# Altium footprint library PcbLib_HAS_2.0.PcbLib: 31 footprints (part 2 of 2)
Each footprint in its own frame and in the unit in brackets; x right, y up, seen from the top. Pads: shape width x height; smd on the part's side, far side on the other; paste and mask are expansions set on the pad; w line width, h text height; cw(c..) or ccw(c..) is an arc to the next point about the centre after c.
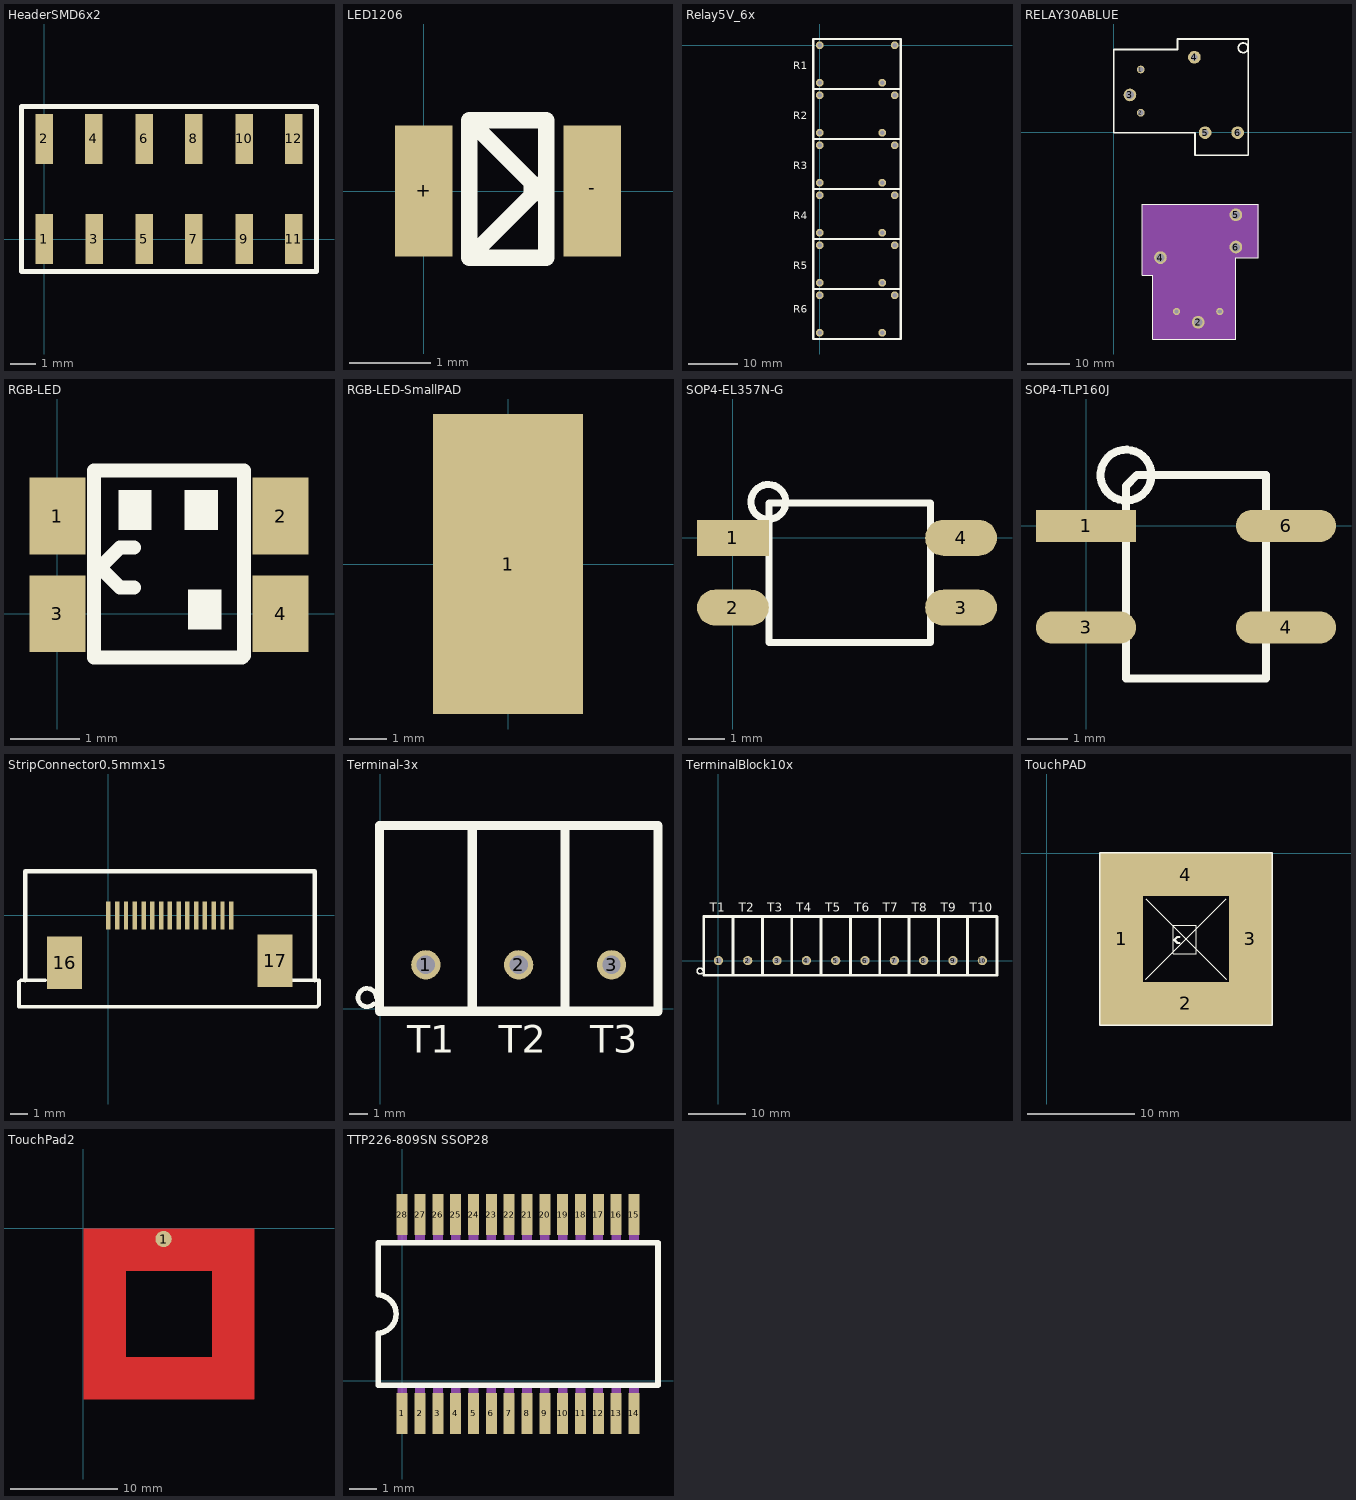
[diagram p1: the footprints below, top view; thin cyan lines are the x and y axes]

## HeaderSMD6x2 [mm]
pads (12):
  rect 0.7x2 smd: 1(0,0) 2(0,4) 3(2,0) 4(2,4) 5(4,0) 6(4,4) 7(6,0) 8(6,4) 9(8,0) 10(8,4) 11(10,0) 12(10,4)
Top Overlay:
  lines w0.2: -0.9,-1.3 10.9,-1.3 10.9,5.3 -0.9,5.3 -0.9,-1.3

## LED1206 [mm]
pads (2):
  rect 0.7x1.6 smd: +(0,0) -(2.06,0)
Top Overlay:
  lines w0.2: 0.559,-0.813 0.559,0.864 ; 0.559,-0.813 1.499,-0.813 1.499,0.864 0.559,0.864 ; 0.559,-0.813 1.321,-0.051 1.321,0.102 0.559,0.864

## Relay5V_6x [mm]
pads (24):
  round 1.6 hole 1 paste+0: 1A(0,0) 1B(0,-10.16) 1C(0,-20.32) 1D(0,-30.48) 1E(0,-40.64) 1F(0,-50.8) 2A(0,-7.62) 2B(0,-17.78) 2C(0,-27.94) 2D(0,-38.1) 2E(0,-48.26) 2F(0,-58.42) 3A(15.24,0) 3B(15.24,-10.16) 3C(15.24,-20.32) 3D(15.24,-30.48) 3E(15.24,-40.64) 3F(15.24,-50.8) 4A(12.7,-7.62) 4B(12.7,-17.78) 4C(12.7,-27.94) 4D(12.7,-38.1) 4E(12.7,-48.26) 4F(12.7,-58.42)
Top Overlay:
  lines w0.5: -1.27,-49.53 16.51,-49.53 ; -1.27,-49.53 -1.27,-59.69 16.51,-59.69 16.51,-49.53 ; -1.27,-49.53 16.51,-49.53 ; -1.27,-49.53 -1.27,-39.37 ; -1.27,-39.37 16.51,-39.37 ; -1.27,-39.37 16.51,-39.37 ; -1.27,-39.37 -1.27,-29.21 ; -1.27,-29.21 16.51,-29.21 ; -1.27,-29.21 16.51,-29.21 ; -1.27,-29.21 -1.27,-19.05 ; -1.27,-19.05 16.51,-19.05 ; -1.27,-19.05 16.51,-19.05 ; -1.27,-19.05 -1.27,-8.89 ; -1.27,-8.89 16.51,-8.89 ; -1.27,-8.89 -1.27,1.27 16.51,1.27 16.51,-8.89 ; -1.27,-8.89 16.51,-8.89 ; 16.51,-49.53 16.51,-39.37 ; 16.51,-39.37 16.51,-29.21 ; 16.51,-29.21 16.51,-19.05 ; 16.51,-19.05 16.51,-8.89
  text "R6" at -5.42,-54.36 h1.52
  text "R5" at -5.42,-45.47 h1.52
  text "R4" at -5.42,-35.31 h1.52
  text "R3" at -5.42,-25.15 h1.52
  text "R2" at -5.42,-14.99 h1.52
  text "R1" at -5.42,-4.83 h1.52

## RELAY30ABLUE [mm] "Relay30ABlue"
pads (12):
  round 1.8 hole 1.2: 1(6.331,14.782) 2(6.331,4.582)
  round 1.7 hole 1: 1(24.986,-42.313) 3(14.786,-42.313)
  round 3 hole 2: 2(19.886,-44.853) 3(3.781,8.782) 4(10.986,-29.613) 5(28.786,-19.513) 6(28.786,-27.113)
  round 3 hole 1.5: 4(18.991,17.682) 5(21.531,-0.118) 6(29.2,-0.118)
Top Overlay:
  circle w0.4: c30.516,19.902 r1.15
  lines w0.127: 6.686,-33.713 6.686,-17.013 34.086,-17.013 34.086,-29.613 28.786,-29.613 28.786,-48.813 9.186,-48.813 9.186,-33.713 6.686,-33.713
  lines w0.4: -0.069,-0.118 -0.069,19.482 15.031,19.482 15.031,21.982 31.731,21.982 31.731,9.754 31.731,-5.418 19.131,-5.418 19.131,-0.118 -0.069,-0.118
Mechanical 27:
  region: 28.768,-48.813 28.768,-29.636 34.102,-29.636 34.102,-17.063 6.67,-17.063 6.67,-33.7 9.21,-33.7 9.21,-48.813

## RGB-LED [mm]
pads (4):
  rect 0.8x1.1 smd: 1(0,1.4) 2(3.2,1.4) 3(0,0) 4(3.2,0)
Top Overlay:
  rectangle: 1.875,-0.225 2.35,0.35
  rectangle: 1.825,1.2 2.3,1.775
  rectangle: 0.875,1.2 1.35,1.775
  lines w0.2: 1.1,0.375 0.9,0.375 0.625,0.65 0.625,0.675 0.9,0.95 1.1,0.95 ; 0.525,-0.625 2.65,-0.625 2.675,-0.6 2.675,2.05 0.525,2.05 0.525,-0.625

## RGB-LED-SmallPAD [mm]
pads (1):
  rect 4x8 smd: 1(0,0)

## SOP4-EL357N-G [mm]
pads (4):
  rect 2x1 smd: 1(0,0)
  oval 2x1 smd: 2(0,-1.94) 3(6.35,-1.94) 4(6.35,0)
Top Overlay:
  circle w0.2: c0.985,1 r0.485
  lines w0.2: 1,-2.91 1,0.97 2.69,0.97 5.5,0.97 5.5,-2.91 1,-2.91

## SOP4-TLP160J [mm]
pads (4):
  rect 2.5x0.8 smd: 1(0,0)
  oval 2.5x0.8 smd: 3(0,-2.54) 4(5,-2.54) 6(5,0)
Top Overlay:
  circle w0.2: c1,1.27 r0.635
  lines w0.2: 1,-3.81 1,1 1.27,1.27 1.865,1.27 4.5,1.27 4.5,-3.81 1,-3.81

## StripConnector0.5mmx15 [mm]
pads (17):
  rect 0.254x1.6 smd: 1(0,0) 2(0.5,0) 3(1,0) 4(1.5,0) 5(2,0) 6(2.5,0) 7(3,0) 8(3.5,0) 9(4,0) 10(4.5,0) 11(5,0) 12(5.5,0) 13(6,0) 14(6.5,0) 15(7,0)
  rect 2x3 smd: 16(-2.5,-2.7) 17(9.5,-2.6)
Top Overlay:
  lines w0.2: -3.6,-3.7 -5,-3.7 -5.1,-3.8 -5.1,-5.2 11.9,-5.2 12,-5.1 12,-3.7 10.5,-3.7
  lines w0.254: -4.75,-3.7 -4.75,2.5 11.75,2.5 11.75,-3.7

## Terminal-3x [mm] "Power Terminal 3 pins"
height 10
pads (3):
  round 1.6 hole 1: 1(2.5,2.4) 2(7.58,2.4) 3(12.66,2.4)
Top Overlay:
  lines w0.254: -0.354,0.254 cw(c-0.707,0.607) -0.207,0.607
  lines w0.5: 5.04,-0.14 5.04,10.02 ; 10.12,-0.14 10.12,10.02 ; 15.1,-0.14 -0.04,-0.14 -0.04,10.02 15.18,10.02 15.2,10 15.2,-0.14
  text "T1" at 1.5,-2.4 h1.52
  text "T2" at 6.5,-2.4 h1.52
  text "T3" at 11.5,-2.4 h1.52

## TerminalBlock10x [mm]
pads (10):
  round 1.6 hole 1: 1(0,0) 2(5.08,0) 3(10.16,0) 4(15.24,0) 5(20.32,0) 6(25.4,0) 7(30.48,0) 8(35.56,0) 9(40.64,0) 10(45.72,0)
Top Overlay:
  lines w0.254: -2.854,-2.146 cw(c-3.207,-1.793) -2.707,-1.793
  lines w0.5: 2.54,-2.54 2.54,7.62 ; 7.62,-2.54 7.62,7.62 ; 12.7,-2.54 12.7,7.62 ; 17.78,-2.54 17.78,7.62 ; 22.86,-2.54 22.86,7.62 ; 27.94,-2.54 27.94,7.62 ; 33.02,-2.54 33.02,7.62 ; 38.1,-2.54 38.1,7.62 ; 43.18,-2.54 43.18,7.62 ; -2.54,-2.54 48.26,-2.54 48.26,7.62 -2.54,7.62 -2.54,-2.54
  text "T10" at 43.5,8.5 h1.52
  text "T9" at 38.5,8.5 h1.52
  text "T8" at 33.5,8.5 h1.52
  text "T7" at 28.5,8.5 h1.52
  text "T6" at 23.5,8.5 h1.52
  text "T5" at 18.5,8.5 h1.52
  text "T4" at 13.5,8.5 h1.52
  text "T3" at 8.5,8.5 h1.52
  text "T2" at 3.5,8.5 h1.52
  text "T1" at -1.5,8.5 h1.52

## TLP160J [mm]

## TouchPAD [mm]
pads (4):
  rect 4x16 smd: 1(7,-8) 3(19,-8)
  rect 16x4 smd: 2(13,-14) 4(13,-2)
Top Overlay:
  lines w0.102: 9.25,-11.75 16.75,-4.25 ; 9.25,-4.25 16.75,-11.75 ; 13.95,-9.375 11.825,-9.375 11.825,-6.7 13.975,-6.7 13.975,-9.35
  lines w0.2: 12.4,-8.375 12.2,-8.375 11.925,-8.1 11.925,-8.075 12.2,-7.8 12.4,-7.8
  lines w0.254: 5,-16 21,-16 21,0 5,0 5,-16

## TouchPad2 [mm]
pads (1):
  round 1.524 smd: 1(7.5,-1)
Top Layer:
  region: 0,0 0,-16 4,-16 4,0
  region: 16,-12 0,-12 0,-16 16,-16
  region: 16,-16 16,0 12,0 12,-16
  rectangle: 0,-4 16,0

## TTP226-809SN SSOP28 [mm]
pads (28):
  rect 0.4x1.5 smd: 1(-0.003,-1.184) 2(0.647,-1.184) 3(1.297,-1.184) 4(1.947,-1.184) 5(2.597,-1.184) 6(3.247,-1.184) 7(3.897,-1.184) 8(4.547,-1.184) 9(5.197,-1.184) 10(5.847,-1.184) 11(6.497,-1.184) 12(7.147,-1.184) 13(7.797,-1.184) 14(8.447,-1.184) 15(8.447,6.066) 16(7.797,6.066) 17(7.147,6.066) 18(6.497,6.066) 19(5.847,6.066) 20(5.197,6.066) 21(4.547,6.066) 22(3.897,6.066) 23(3.247,6.066) 24(2.597,6.066) 25(1.947,6.066) 26(1.297,6.066) 27(0.647,6.066) 28(-0.003,6.066)
Top Overlay:
  lines w0.203: -0.878,-0.159 9.322,-0.159 9.322,5.041 -0.878,5.041 -0.878,3.136 cw(c-0.919,2.441) -0.878,1.746 -0.878,-0.159
Mechanical 16:
  rectangle: -0.181,-1.496 0.175,-0.201
  rectangle: 0.469,-1.496 0.825,-0.201
  rectangle: 1.119,-1.496 1.475,-0.201
  rectangle: 1.769,-1.496 2.125,-0.201
  rectangle: 2.419,-1.496 2.775,-0.201
  rectangle: 3.069,-1.496 3.425,-0.201
  rectangle: 3.719,-1.496 4.075,-0.201
  rectangle: 4.369,-1.496 4.725,-0.201
  rectangle: 5.019,-1.496 5.375,-0.201
  rectangle: 5.669,-1.496 6.025,-0.201
  rectangle: 6.319,-1.496 6.675,-0.201
  rectangle: 6.969,-1.496 7.325,-0.201
  rectangle: 7.619,-1.496 7.975,-0.201
  rectangle: 8.269,-1.496 8.625,-0.201
  rectangle: 8.269,5.083 8.625,6.378
  rectangle: 7.619,5.083 7.975,6.378
  rectangle: 6.969,5.083 7.325,6.378
  rectangle: 6.319,5.083 6.675,6.378
  rectangle: 5.669,5.083 6.025,6.378
  rectangle: 5.019,5.083 5.375,6.378
  rectangle: 4.369,5.083 4.725,6.378
  rectangle: 3.719,5.083 4.075,6.378
  rectangle: 3.069,5.083 3.425,6.378
  rectangle: 2.419,5.083 2.775,6.378
  rectangle: 1.769,5.083 2.125,6.378
  rectangle: 1.119,5.083 1.475,6.378
  rectangle: 0.469,5.083 0.825,6.378
  rectangle: -0.181,5.083 0.175,6.378